# Altium footprint library C48543706.PcbLib: 1 footprints
Each footprint in its own frame and in the unit in brackets; x right, y up, seen from the top. Pads: shape width x height; smd on the part's side, far side on the other; paste and mask are expansions set on the pad; w line width, h text height; cw(c..) or ccw(c..) is an arc to the next point about the centre after c.
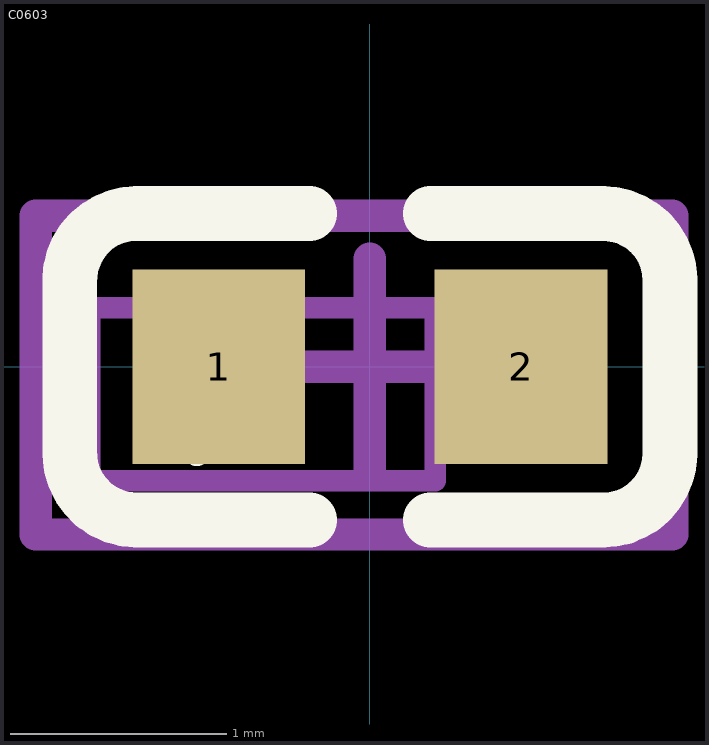
[diagram p0: the footprint, top view; thin cyan lines are the x and y axes]

## C0603 [mm] "33pF C0G ±1% 50V 0603 Ceramic Capacitors"
pads (2):
  rect 0.8x0.9 smd: 1(-0.7,0) 2(0.7,0)
Top Overlay:
  circle w0.06: c-0.8,-0.4 r0.03
  lines w0.254: -1.08,-0.71 -0.28,-0.71 ; -1.08,0.71 -0.28,0.71 ; -1.08,-0.71 cw(c-1.08,-0.4) -1.39,-0.4 -1.39,0.4 cw(c-1.08,0.4) -1.08,0.71 ; 0.28,-0.71 1.08,-0.71 ccw(c1.08,-0.4) 1.39,-0.4 1.39,0.4 ccw(c1.08,0.4) 1.08,0.71 0.28,0.71
AOI:
  region: -0.8,-0.4 -0.8,0.4 -0.5,0.4 -0.5,-0.4
  region: 0.8,-0.4 0.8,0.4 0.5,0.4 0.5,-0.4
Top 3D Body:
  lines w0.1: -1.297,-0.527 0.303,-0.527 0.303,0.273 -1.297,0.273 -1.297,-0.527
Top Courtyard:
  lines w0.15: -0.5,0 0.5,0 ; 0,-0.5 0,0.5 ; -1.547,-0.777 1.4,-0.777 1.4,0.7 -1.547,0.7 -1.547,-0.777
3D body "C0603.step": height 0.03, standoff 0, extent -1.297,-0.527 0.303,0.273